# EAGLE library part 750813551 (library wurth_electronics_midcom_inc_v2-1)
Package Style: EE16/8/5 Mounting: SMD Pins: 12 pins Bobbin: 070-5642 Best pinouts for production vary per application. Please contact Wurth Electronics Midcom, Inc. for assistance with your custom design. Website: Wurth Electronics Midcom <http://www.we-online.com/midcom> Contact us Wurth Electronics Midcom, Inc. 121 Airport Dr. Watertown, SD 57201 Phone: (605) 886-4385 Fax: (605) 886-4486 E-Mail: midcom@we-online.com
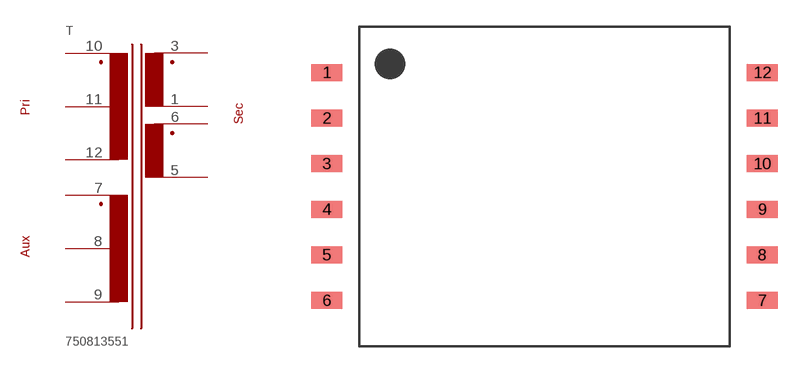
[diagram p384: symbol with the pads of EE16/8/5_SMD_H_12PIN_(5642); footprint EE16/8/5_SMD_H_12PIN_(5642)]

Designator prefix T

## 750813551  [EE16/8/5_SMD_H_12PIN_(5642)]
1  1  pas
3  3  pas
5  5  pas
6  6  pas
7  7  pas
8  8  pas
9  9  pas
10  10  pas
11  11  pas
12  12  pas

## Footprint EE16/8/5_SMD_H_12PIN_(5642) (pad centres in mm)
Package Style: EE16/8/5 Mounting: SMD Pins: 12 Bobbin: 070-5642
smd 1.702 x 0.94: 1 -12.116,6.35; 2 -12.116,3.81; 3 -12.116,1.27; 4 -12.116,-1.27; 5 -12.116,-3.81; 6 -12.116,-6.35; 7 12.116,-6.35; 8 12.116,-3.81; 9 12.116,-1.27; 10 12.116,1.27; 11 12.116,3.81; 12 12.116,6.35